# Altium integrated library WE-PoE_rev15a.intlib: 10 symbols
Pins are listed as number, name and electrical type; pins without a type are passive.

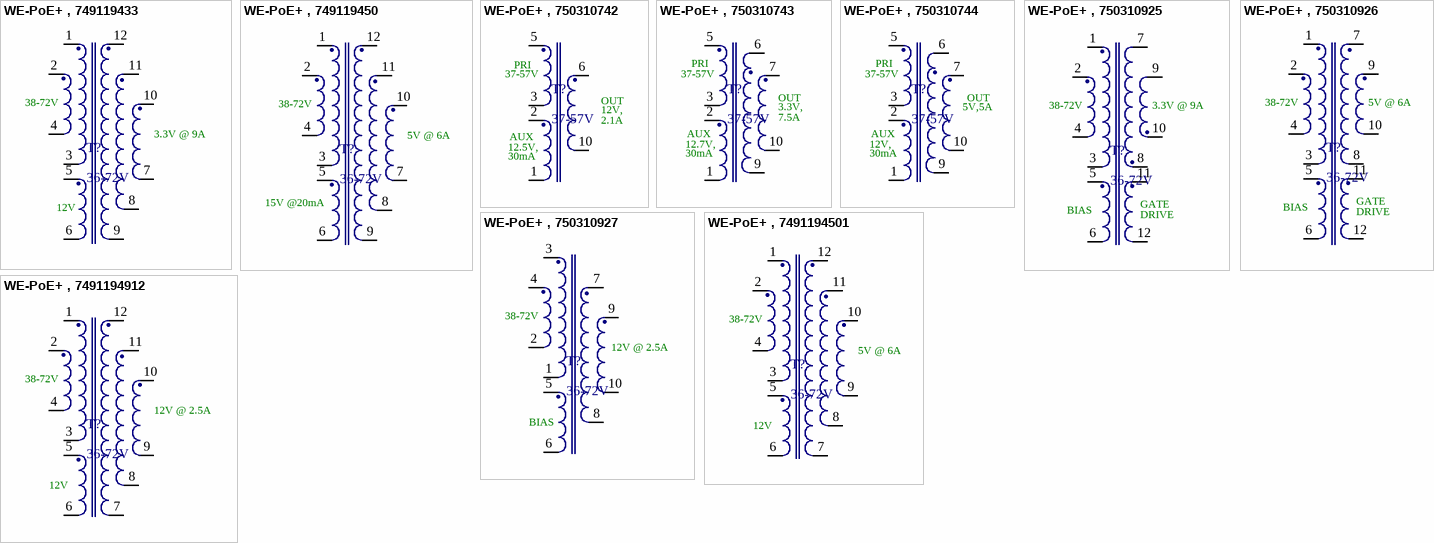
[diagram p0: symbols WE-PoE+ , 749119433 to WE-PoE+ , 7491194912]

## WE-PoE+ , 749119433
designator T?, comment 36-72V
Power over Ethernet Plus Transformer WE-PoE+ , Ui=36-72V; PartNo: 749119433; Manufacturer: Würth Elektronik eiSos GmbH; Ui: 36-72V; ComponentLink1Description: Manufacturer; ComponentLink1URL: http://www.we-online.de; Created by: Otto Christin; Created Date: OCT 2013; ComponentLink2Description: Datasheet; ComponentLink2URL: http://katalog.we-online.de/pbs/datasheet/749119433.pdf
footprint EFD20 (SMD, 12-Leads, Body 23.1x22.0mm (max), Pitch 3.00mm, IPC Medium Density)
pins: 1, 2, 3, 4, 5, 6, 7, 8, 9, 10, 11, 12
text: 38-72V; 3.3V @ 9A; 12V

## WE-PoE+ , 749119450
designator T?, comment 36-72V
Power over Ethernet Plus Transformer WE-PoE+ , Ui=36-72V; PartNo: 749119450; Manufacturer: Würth Elektronik eiSos GmbH; Ui: 36-72V; ComponentLink1Description: Manufacturer; ComponentLink1URL: http://www.we-online.de; Created by: Otto Christin; Created Date: OCT 2013; ComponentLink2Description: Datasheet; ComponentLink2URL: http://katalog.we-online.de/pbs/datasheet/749119450.pdf
footprint EFD20 (SMD, 12-Leads, Body 23.1x22.0mm (max), Pitch 3.00mm, IPC Medium Density)
pins: 1, 2, 3, 4, 5, 6, 7, 8, 9, 10, 11, 12
text: 38-72V; 5V @ 6A; 15V @20mA

## WE-PoE+ , 750310742
designator T?, comment 37-57V
Power over Ethernet Plus Transformer WE-PoE+ , Ui=37-57V; PartNo: 750310742; Manufacturer: Würth Elektronik eiSos GmbH; Ui: 37-57V; ComponentLink1Description: Manufacturer; ComponentLink1URL: http://www.we-online.de; Created by: Otto Christin; Created Date: OCT 2013; ComponentLink2Description: Datasheet; ComponentLink2URL: http://katalog.we-online.de/pbs/datasheet/750310742.pdf
footprint EP13 (SMD, 10-Leads, Body 13.5x10.0mm (max), Pitch 2.50mm, IPC Medium Density)
pins: 1, 2, 3, 5, 6, 10
text: PRI; OUT; 12V,; 2.1A; AUX; 12.5V,; 30mA

## WE-PoE+ , 750310743
designator T?, comment 37-57V
Power over Ethernet Plus Transformer WE-PoE+ , Ui=37-57V; PartNo: 750310743; Manufacturer: Würth Elektronik eiSos GmbH; Ui: 37-57V; ComponentLink1Description: Manufacturer; ComponentLink1URL: http://www.we-online.de; Created by: Otto Christin; Created Date: OCT 2013; ComponentLink2Description: Datasheet; ComponentLink2URL: http://katalog.we-online.de/pbs/datasheet/750310743.pdf
footprint EP13 (SMD, 10-Leads, Body 13.5x10.0mm (max), Pitch 2.50mm, IPC Medium Density)
pins: 1, 2, 3, 5, 6, 7, 9, 10
text: PRI; OUT; 3.3V,; 7.5A; AUX; 12.7V,; 30mA

## WE-PoE+ , 750310744
designator T?, comment 37-57V
Power over Ethernet Plus Transformer WE-PoE+ , Ui=37-57V; PartNo: 750310744; Manufacturer: Würth Elektronik eiSos GmbH; Ui: 37-57V; ComponentLink1Description: Manufacturer; ComponentLink1URL: http://www.we-online.de; Created by: Otto Christin; Created Date: OCT 2013; ComponentLink2Description: Datasheet; ComponentLink2URL: http://katalog.we-online.de/pbs/datasheet/750310744.pdf
footprint EP13 (SMD, 10-Leads, Body 13.5x10.0mm (max), Pitch 2.50mm, IPC Medium Density)
pins: 1, 2, 3, 5, 6, 7, 9, 10
text: PRI; OUT; 5V,; 5A; AUX; 12V,; 30mA

## WE-PoE+ , 750310925
designator T?, comment 36-72V
Power over Ethernet Plus Transformer WE-PoE+ , Ui=36-72V; PartNo: 750310925; Manufacturer: Würth Elektronik eiSos GmbH; Ui: 36-72V; ComponentLink1Description: Manufacturer; ComponentLink1URL: http://www.we-online.de; Created by: Otto Christin; Created Date: OCT 2013; ComponentLink2Description: Datasheet; ComponentLink2URL: http://katalog.we-online.de/pbs/datasheet/750310925.pdf
footprint EFD20 (SMD, 12-Leads, Body 23.1x22.0mm (max), Pitch 3.00mm, IPC Medium Density)
pins: 1, 2, 3, 4, 5, 6, 7, 8, 9, 10, 11, 12
text: 38-72V; 3.3V @ 9A; GATE; BIAS; DRIVE

## WE-PoE+ , 750310926
designator T?, comment 36-72V
Power over Ethernet Plus Transformer WE-PoE+ , Ui=36-72V; PartNo: 750310926; Manufacturer: Würth Elektronik eiSos GmbH; Ui: 36-72V; ComponentLink1Description: Manufacturer; ComponentLink1URL: http://www.we-online.de; Created by: Otto Christin; Created Date: OCT 2013; ComponentLink2Description: Datasheet; ComponentLink2URL: http://katalog.we-online.de/pbs/datasheet/750310926.pdf
footprint EFD20 (SMD, 12-Leads, Body 23.1x22.0mm (max), Pitch 3.00mm, IPC Medium Density)
pins: 1, 2, 3, 4, 5, 6, 7, 8, 9, 10, 11, 12
text: 38-72V; 5V @ 6A; GATE; BIAS; DRIVE

## WE-PoE+ , 750310927
designator T?, comment 36-72V
Power over Ethernet Plus Transformer WE-PoE+ , Ui=36-72V; PartNo: 750310927; Manufacturer: Würth Elektronik eiSos GmbH; Ui: 36-72V; ComponentLink1Description: Manufacturer; ComponentLink1URL: http://www.we-online.de; Created by: Otto Christin; Created Date: OCT 2013; ComponentLink2Description: Datasheet; ComponentLink2URL: http://katalog.we-online.de/pbs/datasheet/750310927.pdf
footprint EFD20 (SMD, 12-Leads, Body 23.1x22.0mm (max), Pitch 3.00mm, IPC Medium Density)
pins: 1, 2, 3, 4, 5, 6, 7, 8, 9, 10
text: 38-72V; 12V @ 2.5A; BIAS

## WE-PoE+ , 7491194501
designator T?, comment 36-72V
Power over Ethernet Plus Transformer WE-PoE+ , Ui=36-72V; PartNo: 7491194501; Manufacturer: Würth Elektronik eiSos GmbH; Ui: 36-72V; ComponentLink1Description: Manufacturer; ComponentLink1URL: http://www.we-online.de; Created by: Otto Christin; Created Date: OCT 2013; ComponentLink2Description: Datasheet; ComponentLink2URL: http://katalog.we-online.de/pbs/datasheet/7491194501.pdf
footprint EFD20 (SMD, 12-Leads, Body 23.1x22.0mm (max), Pitch 3.00mm, IPC Medium Density)
pins: 1, 2, 3, 4, 5, 6, 7, 8, 9, 10, 11, 12
text: 38-72V; 5V @ 6A; 12V

## WE-PoE+ , 7491194912
designator T?, comment 36-72V
Power over Ethernet Plus Transformer WE-PoE+ , Ui=36-72V; PartNo: 7491194912; Manufacturer: Würth Elektronik eiSos GmbH; Ui: 36-72V; ComponentLink1Description: Manufacturer; ComponentLink1URL: http://www.we-online.de; Created by: Otto Christin; Created Date: OCT 2013; ComponentLink2Description: Datasheet; ComponentLink2URL: http://katalog.we-online.de/pbs/datasheet/7491194912.pdf
footprint EFD20 (SMD, 12-Leads, Body 23.1x22.0mm (max), Pitch 3.00mm, IPC Medium Density)
pins: 1, 2, 3, 4, 5, 6, 7, 8, 9, 10, 11, 12
text: 38-72V; 12V @ 2.5A; 12V